# EAGLE library part EP3C16Q240C8 (library altera)
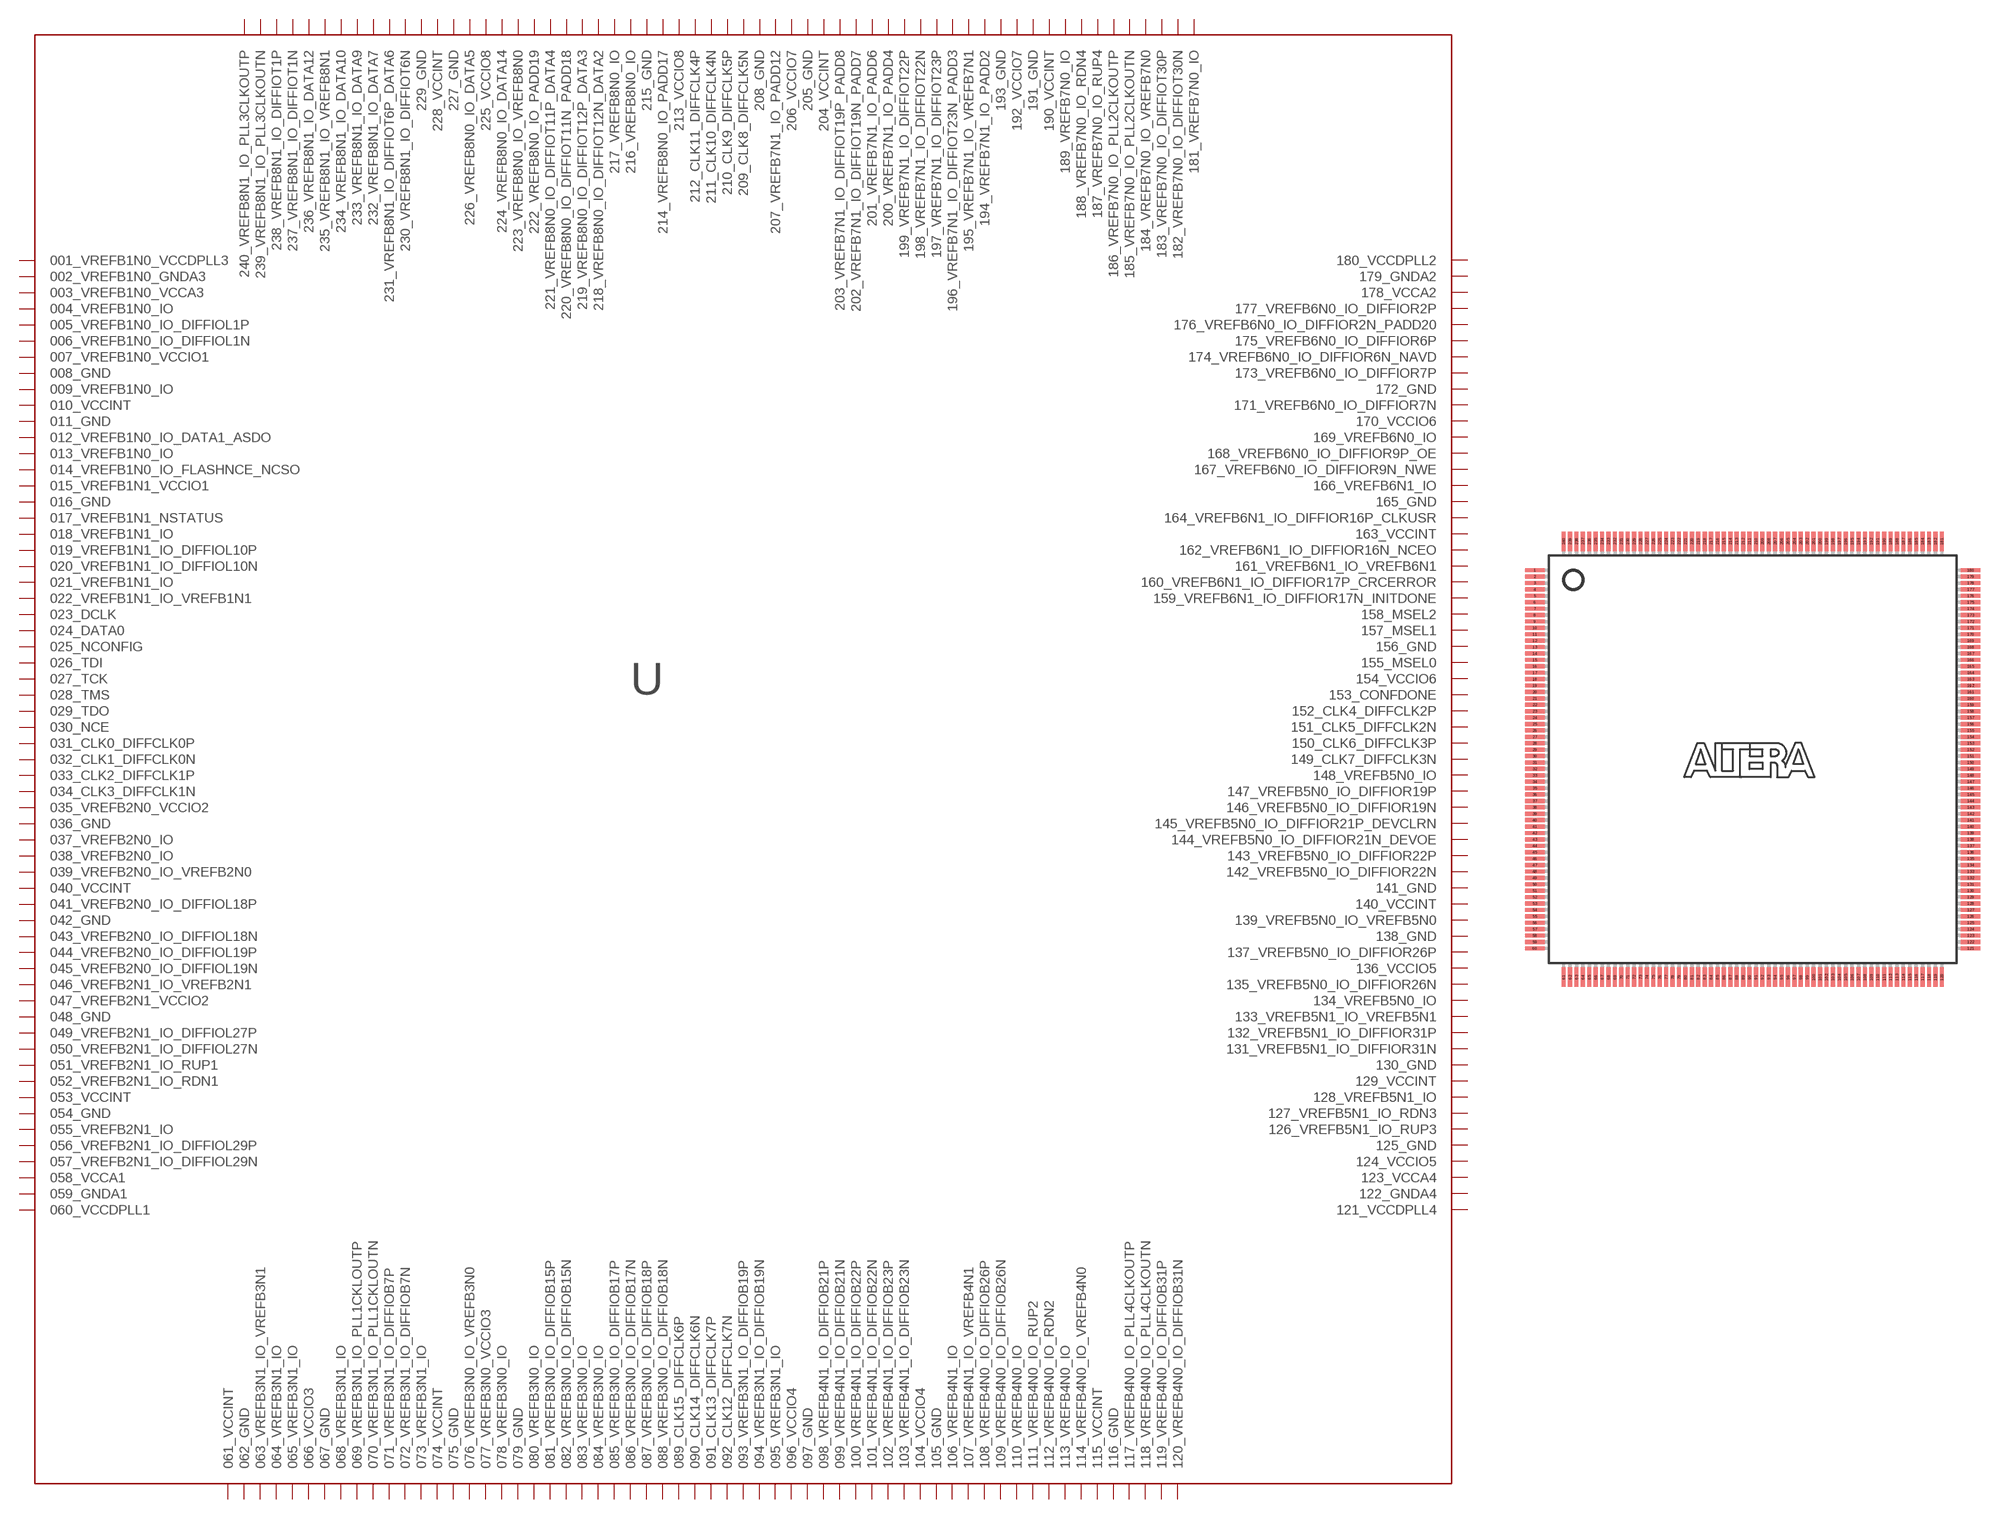
[diagram p64: symbol with the pads of PQFP240; footprint PQFP240]

Designator prefix -

## EP3C16Q240C8  [PQFP240]
1  001_VREFB1N0_VCCDPLL3
2  002_VREFB1N0_GNDA3
3  003_VREFB1N0_VCCA3
4  004_VREFB1N0_IO
5  005_VREFB1N0_IO_DIFFIOL1P
6  006_VREFB1N0_IO_DIFFIOL1N
7  007_VREFB1N0_VCCIO1
8  008_GND
9  009_VREFB1N0_IO
10  010_VCCINT
11  011_GND
12  012_VREFB1N0_IO_DATA1_ASDO
13  013_VREFB1N0_IO
14  014_VREFB1N0_IO_FLASHNCE_NCSO
15  015_VREFB1N1_VCCIO1
16  016_GND
17  017_VREFB1N1_NSTATUS
18  018_VREFB1N1_IO
19  019_VREFB1N1_IO_DIFFIOL10P
20  020_VREFB1N1_IO_DIFFIOL10N
21  021_VREFB1N1_IO
22  022_VREFB1N1_IO_VREFB1N1
23  023_DCLK
24  024_DATA0
25  025_NCONFIG
26  026_TDI
27  027_TCK
28  028_TMS
29  029_TDO
30  030_NCE
31  031_CLK0_DIFFCLK0P
32  032_CLK1_DIFFCLK0N
33  033_CLK2_DIFFCLK1P
34  034_CLK3_DIFFCLK1N
35  035_VREFB2N0_VCCIO2
36  036_GND
37  037_VREFB2N0_IO
38  038_VREFB2N0_IO
39  039_VREFB2N0_IO_VREFB2N0
40  040_VCCINT
41  041_VREFB2N0_IO_DIFFIOL18P
42  042_GND
43  043_VREFB2N0_IO_DIFFIOL18N
44  044_VREFB2N0_IO_DIFFIOL19P
45  045_VREFB2N0_IO_DIFFIOL19N
46  046_VREFB2N1_IO_VREFB2N1
47  047_VREFB2N1_VCCIO2
48  048_GND
49  049_VREFB2N1_IO_DIFFIOL27P
50  050_VREFB2N1_IO_DIFFIOL27N
51  051_VREFB2N1_IO_RUP1
52  052_VREFB2N1_IO_RDN1
53  053_VCCINT
54  054_GND
55  055_VREFB2N1_IO
56  056_VREFB2N1_IO_DIFFIOL29P
57  057_VREFB2N1_IO_DIFFIOL29N
58  058_VCCA1
59  059_GNDA1
60  060_VCCDPLL1
61  061_VCCINT
62  062_GND
63  063_VREFB3N1_IO_VREFB3N1
64  064_VREFB3N1_IO
65  065_VREFB3N1_IO
66  066_VCCIO3
67  067_GND
68  068_VREFB3N1_IO
69  069_VREFB3N1_IO_PLL1CKLOUTP
70  070_VREFB3N1_IO_PLL1CKLOUTN
71  071_VREFB3N1_IO_DIFFIOB7P
72  072_VREFB3N1_IO_DIFFIOB7N
73  073_VREFB3N1_IO
74  074_VCCINT
75  075_GND
76  076_VREFB3N0_IO_VREFB3N0
77  077_VREFB3N0_VCCIO3
78  078_VREFB3N0_IO
79  079_GND
80  080_VREFB3N0_IO
81  081_VREFB3N0_IO_DIFFIOB15P
82  082_VREFB3N0_IO_DIFFIOB15N
83  083_VREFB3N0_IO
84  084_VREFB3N0_IO
85  085_VREFB3N0_IO_DIFFIOB17P
86  086_VREFB3N0_IO_DIFFIOB17N
87  087_VREFB3N0_IO_DIFFIOB18P
88  088_VREFB3N0_IO_DIFFIOB18N
89  089_CLK15_DIFFCLK6P
90  090_CLK14_DIFFCLK6N
91  091_CLK13_DIFFCLK7P
92  092_CLK12_DIFFCLK7N
93  093_VREFB3N1_IO_DIFFIOB19P
94  094_VREFB3N1_IO_DIFFIOB19N
95  095_VREFB3N1_IO
96  096_VCCIO4
97  097_GND
98  098_VREFB4N1_IO_DIFFIOB21P
99  099_VREFB4N1_IO_DIFFIOB21N
100  100_VREFB4N1_IO_DIFFIOB22P
101  101_VREFB4N1_IO_DIFFIOB22N
102  102_VREFB4N1_IO_DIFFIOB23P
103  103_VREFB4N1_IO_DIFFIOB23N
104  104_VCCIO4
105  105_GND
106  106_VREFB4N1_IO
107  107_VREFB4N1_IO_VREFB4N1
108  108_VREFB4N0_IO_DIFFIOB26P
109  109_VREFB4N0_IO_DIFFIOB26N
110  110_VREFB4N0_IO
111  111_VREFB4N0_IO_RUP2
112  112_VREFB4N0_IO_RDN2
113  113_VREFB4N0_IO
114  114_VREFB4N0_IO_VREFB4N0
115  115_VCCINT
116  116_GND
117  117_VREFB4N0_IO_PLL4CLKOUTP
118  118_VREFB4N0_IO_PLL4CLKOUTN
119  119_VREFB4N0_IO_DIFFIOB31P
120  120_VREFB4N0_IO_DIFFIOB31N
121  121_VCCDPLL4
122  122_GNDA4
123  123_VCCA4
124  124_VCCIO5
125  125_GND
126  126_VREFB5N1_IO_RUP3
127  127_VREFB5N1_IO_RDN3
128  128_VREFB5N1_IO
129  129_VCCINT
130  130_GND
131  131_VREFB5N1_IO_DIFFIOR31N
132  132_VREFB5N1_IO_DIFFIOR31P
133  133_VREFB5N1_IO_VREFB5N1
134  134_VREFB5N0_IO
135  135_VREFB5N0_IO_DIFFIOR26N
136  136_VCCIO5
137  137_VREFB5N0_IO_DIFFIOR26P
138  138_GND
139  139_VREFB5N0_IO_VREFB5N0
140  140_VCCINT
141  141_GND
142  142_VREFB5N0_IO_DIFFIOR22N
143  143_VREFB5N0_IO_DIFFIOR22P
144  144_VREFB5N0_IO_DIFFIOR21N_DEVOE
145  145_VREFB5N0_IO_DIFFIOR21P_DEVCLRN
146  146_VREFB5N0_IO_DIFFIOR19N
147  147_VREFB5N0_IO_DIFFIOR19P
148  148_VREFB5N0_IO
149  149_CLK7_DIFFCLK3N
150  150_CLK6_DIFFCLK3P
151  151_CLK5_DIFFCLK2N
152  152_CLK4_DIFFCLK2P
153  153_CONFDONE
154  154_VCCIO6
155  155_MSEL0
156  156_GND
157  157_MSEL1
158  158_MSEL2
159  159_VREFB6N1_IO_DIFFIOR17N_INITDONE
160  160_VREFB6N1_IO_DIFFIOR17P_CRCERROR
161  161_VREFB6N1_IO_VREFB6N1
162  162_VREFB6N1_IO_DIFFIOR16N_NCEO
163  163_VCCINT
164  164_VREFB6N1_IO_DIFFIOR16P_CLKUSR
165  165_GND
166  166_VREFB6N1_IO
167  167_VREFB6N0_IO_DIFFIOR9N_NWE
168  168_VREFB6N0_IO_DIFFIOR9P_OE
169  169_VREFB6N0_IO
170  170_VCCIO6
171  171_VREFB6N0_IO_DIFFIOR7N
172  172_GND
173  173_VREFB6N0_IO_DIFFIOR7P
174  174_VREFB6N0_IO_DIFFIOR6N_NAVD
175  175_VREFB6N0_IO_DIFFIOR6P
176  176_VREFB6N0_IO_DIFFIOR2N_PADD20
177  177_VREFB6N0_IO_DIFFIOR2P
178  178_VCCA2
179  179_GNDA2
180  180_VCCDPLL2
181  181_VREFB7N0_IO
182  182_VREFB7N0_IO_DIFFIOT30N
183  183_VREFB7N0_IO_DIFFIOT30P
184  184_VREFB7N0_IO_VREFB7N0
185  185_VREFB7N0_IO_PLL2CLKOUTN
186  186_VREFB7N0_IO_PLL2CLKOUTP
187  187_VREFB7N0_IO_RUP4
188  188_VREFB7N0_IO_RDN4
189  189_VREFB7N0_IO
190  190_VCCINT
191  191_GND
192  192_VCCIO7
193  193_GND
194  194_VREFB7N1_IO_PADD2
195  195_VREFB7N1_IO_VREFB7N1
196  196_VREFB7N1_IO_DIFFIOT23N_PADD3
197  197_VREFB7N1_IO_DIFFIOT23P
198  198_VREFB7N1_IO_DIFFIOT22N
199  199_VREFB7N1_IO_DIFFIOT22P
200  200_VREFB7N1_IO_PADD4
201  201_VREFB7N1_IO_PADD6
202  202_VREFB7N1_IO_DIFFIOT19N_PADD7
203  203_VREFB7N1_IO_DIFFIOT19P_PADD8
204  204_VCCINT
205  205_GND
206  206_VCCIO7
207  207_VREFB7N1_IO_PADD12
208  208_GND
209  209_CLK8_DIFFCLK5N
210  210_CLK9_DIFFCLK5P
211  211_CLK10_DIFFCLK4N
212  212_CLK11_DIFFCLK4P
213  213_VCCIO8
214  214_VREFB8N0_IO_PADD17
215  215_GND
216  216_VREFB8N0_IO
217  217_VREFB8N0_IO
218  218_VREFB8N0_IO_DIFFIOT12N_DATA2
219  219_VREFB8N0_IO_DIFFIOT12P_DATA3
220  220_VREFB8N0_IO_DIFFIOT11N_PADD18
221  221_VREFB8N0_IO_DIFFIOT11P_DATA4
222  222_VREFB8N0_IO_PADD19
223  223_VREFB8N0_IO_VREFB8N0
224  224_VREFB8N0_IO_DATA14
225  225_VCCIO8
226  226_VREFB8N0_IO_DATA5
227  227_GND
228  228_VCCINT
229  229_GND
230  230_VREFB8N1_IO_DIFFIOT6N
231  231_VREFB8N1_IO_DIFFIOT6P_DATA6
232  232_VREFB8N1_IO_DATA7
233  233_VREFB8N1_IO_DATA9
234  234_VREFB8N1_IO_DATA10
235  235_VREFB8N1_IO_VREFB8N1
236  236_VREFB8N1_IO_DATA12
237  237_VREFB8N1_IO_DIFFIOT1N
238  238_VREFB8N1_IO_DIFFIOT1P
239  239_VREFB8N1_IO_PLL3CLKOUTN
240  240_VREFB8N1_IO_PLL3CLKOUTP

## Footprint PQFP240 (pad centres in mm)
Plastic Quad Flat Pack
smd 1.5 x 0.32: 1 -17,14.75; 2 -17,14.25; 3 -17,13.75; 4 -17,13.25; 5 -17,12.75; 6 -17,12.25; 7 -17,11.75; 8 -17,11.25; 9 -17,10.75; 10 -17,10.25; 11 -17,9.75; 12 -17,9.25; 13 -17,8.75; 14 -17,8.25; 15 -17,7.75; 16 -17,7.25; 17 -17,6.75; 18 -17,6.25; 19 -17,5.75; 20 -17,5.25; 21 -17,4.75; 22 -17,4.25; 23 -17,3.75; 24 -17,3.25; 25 -17,2.75; 26 -17,2.25; 27 -17,1.75; 28 -17,1.25; 29 -17,0.75; 30 -17,0.25; 31 -17,-0.25; 32 -17,-0.75; 33 -17,-1.25; 34 -17,-1.75; 35 -17,-2.25; 36 -17,-2.75; 37 -17,-3.25; 38 -17,-3.75; 39 -17,-4.25; 40 -17,-4.75; 41 -17,-5.25; 42 -17,-5.75; 43 -17,-6.25; 44 -17,-6.75; 45 -17,-7.25; 46 -17,-7.75; 47 -17,-8.25; 48 -17,-8.75; 49 -17,-9.25; 50 -17,-9.75; 51 -17,-10.25; 52 -17,-10.75; 53 -17,-11.25; 54 -17,-11.75; 55 -17,-12.25; 56 -17,-12.75; 57 -17,-13.25; 58 -17,-13.75; 59 -17,-14.25; 60 -17,-14.75; 121 17,-14.75; 122 17,-14.25; 123 17,-13.75; 124 17,-13.25; 125 17,-12.75; 126 17,-12.25; 127 17,-11.75; 128 17,-11.25; 129 17,-10.75; 130 17,-10.25; 131 17,-9.75; 132 17,-9.25; 133 17,-8.75; 134 17,-8.25; 135 17,-7.75; 136 17,-7.25; 137 17,-6.75; 138 17,-6.25; 139 17,-5.75; 140 17,-5.25; 141 17,-4.75; 142 17,-4.25; 143 17,-3.75; 144 17,-3.25; 145 17,-2.75; 146 17,-2.25; 147 17,-1.75; 148 17,-1.25; 149 17,-0.75; 150 17,-0.25; 151 17,0.25; 152 17,0.75; 153 17,1.25; 154 17,1.75; 155 17,2.25; 156 17,2.75; 157 17,3.25; 158 17,3.75; 159 17,4.25; 160 17,4.75; 161 17,5.25; 162 17,5.75; 163 17,6.25; 164 17,6.75; 165 17,7.25; 166 17,7.75; 167 17,8.25; 168 17,8.75; 169 17,9.25; 170 17,9.75; 171 17,10.25; 172 17,10.75; 173 17,11.25; 174 17,11.75; 175 17,12.25; 176 17,12.75; 177 17,13.25; 178 17,13.75; 179 17,14.25; 180 17,14.75
smd 0.32 x 1.5: 61 -14.75,-17; 62 -14.25,-17; 63 -13.75,-17; 64 -13.25,-17; 65 -12.75,-17; 66 -12.25,-17; 67 -11.75,-17; 68 -11.25,-17; 69 -10.75,-17; 70 -10.25,-17; 71 -9.75,-17; 72 -9.25,-17; 73 -8.75,-17; 74 -8.25,-17; 75 -7.75,-17; 76 -7.25,-17; 77 -6.75,-17; 78 -6.25,-17; 79 -5.75,-17; 80 -5.25,-17; 81 -4.75,-17; 82 -4.25,-17; 83 -3.75,-17; 84 -3.25,-17; 85 -2.75,-17; 86 -2.25,-17; 87 -1.75,-17; 88 -1.25,-17; 89 -0.75,-17; 90 -0.25,-17; 91 0.25,-17; 92 0.75,-17; 93 1.25,-17; 94 1.75,-17; 95 2.25,-17; 96 2.75,-17; 97 3.25,-17; 98 3.75,-17; 99 4.25,-17; 100 4.75,-17; 101 5.25,-17; 102 5.75,-17; 103 6.25,-17; 104 6.75,-17; 105 7.25,-17; 106 7.75,-17; 107 8.25,-17; 108 8.75,-17; 109 9.25,-17; 110 9.75,-17; 111 10.25,-17; 112 10.75,-17; 113 11.25,-17; 114 11.75,-17; 115 12.25,-17; 116 12.75,-17; 117 13.25,-17; 118 13.75,-17; 119 14.25,-17; 120 14.75,-17; 181 14.75,17; 182 14.25,17; 183 13.75,17; 184 13.25,17; 185 12.75,17; 186 12.25,17; 187 11.75,17; 188 11.25,17; 189 10.75,17; 190 10.25,17; 191 9.75,17; 192 9.25,17; 193 8.75,17; 194 8.25,17; 195 7.75,17; 196 7.25,17; 197 6.75,17; 198 6.25,17; 199 5.75,17; 200 5.25,17; 201 4.75,17; 202 4.25,17; 203 3.75,17; 204 3.25,17; 205 2.75,17; 206 2.25,17; 207 1.75,17; 208 1.25,17; 209 0.75,17; 210 0.25,17; 211 -0.25,17; 212 -0.75,17; 213 -1.25,17; 214 -1.75,17; 215 -2.25,17; 216 -2.75,17; 217 -3.25,17; 218 -3.75,17; 219 -4.25,17; 220 -4.75,17; 221 -5.25,17; 222 -5.75,17; 223 -6.25,17; 224 -6.75,17; 225 -7.25,17; 226 -7.75,17; 227 -8.25,17; 228 -8.75,17; 229 -9.25,17; 230 -9.75,17; 231 -10.25,17; 232 -10.75,17; 233 -11.25,17; 234 -11.75,17; 235 -12.25,17; 236 -12.75,17; 237 -13.25,17; 238 -13.75,17; 239 -14.25,17; 240 -14.75,17